# EAGLE library part MC100EP446FAG (library ON_Semiconductor_By_element14_Batch_1)
IC CONV 8BIT SER/PAR ECL
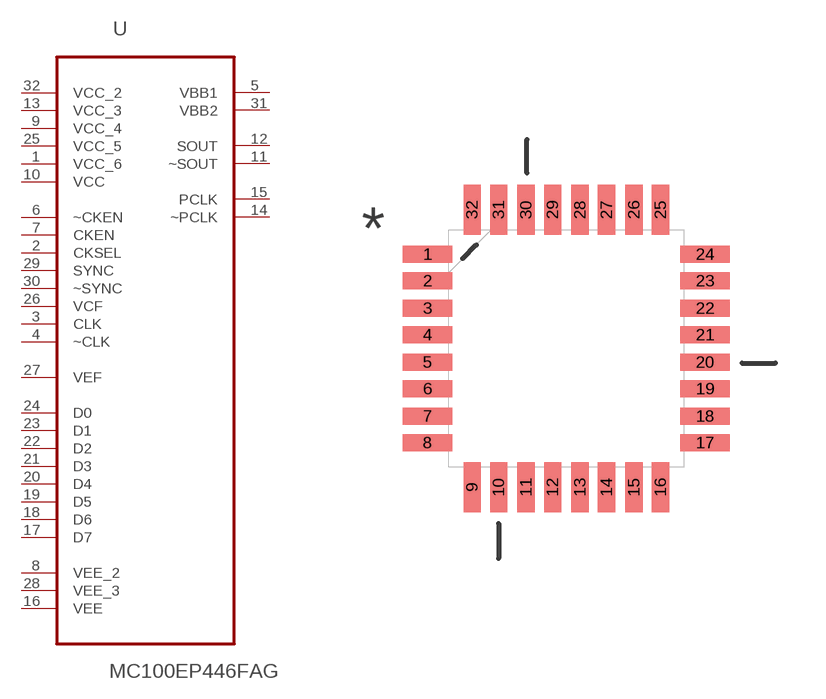
[diagram p120: symbol with the pads of QFP80P900X900X160-32N; footprint QFP80P900X900X160-32N]

Designator prefix U

## MC100EP446FAG (MPN: MC100EP446FAG; OC_FARNELL: 1703314; OC_NEWARK: 26K3867; PACKAGE: LQFP-32; SUPPLIER: ON SEMICONDUCTOR)  [QFP80P900X900X160-32N]
1  VCC_6  pwr
2  CKSEL  in
3  CLK  in
4  ~CLK  in
5  VBB1  out
6  ~CKEN  in
7  CKEN  in
8  VEE_2  pas
9  VCC_4  pwr
10  VCC  pwr
11  ~SOUT  out
12  SOUT  out
13  VCC_3  pwr
14  ~PCLK  out
15  PCLK  out
16  VEE  pas
17  D7  in
18  D6  in
19  D5  in
20  D4  in
21  D3  in
22  D2  in
23  D1  in
24  D0  in
25  VCC_5  pwr
26  VCF  in
27  VEF  in
28  VEE_3  pas
29  SYNC  in
30  ~SYNC  in
31  VBB2  out
32  VCC_2  pwr

## Footprint QFP80P900X900X160-32N (pad centres in mm)
smd 1.473 x 0.508: 1 -4.115,2.794; 2 -4.115,2.007; 3 -4.115,1.194; 4 -4.115,0.406; 5 -4.115,-0.406; 6 -4.115,-1.194; 7 -4.115,-2.007; 8 -4.115,-2.794; 17 4.115,-2.794; 18 4.115,-2.007; 19 4.115,-1.194; 20 4.115,-0.406; 21 4.115,0.406; 22 4.115,1.194; 23 4.115,2.007; 24 4.115,2.794
smd 0.508 x 1.473: 9 -2.794,-4.115; 10 -2.007,-4.115; 11 -1.194,-4.115; 12 -0.406,-4.115; 13 0.406,-4.115; 14 1.194,-4.115; 15 2.007,-4.115; 16 2.794,-4.115; 25 2.794,4.115; 26 2.007,4.115; 27 1.194,4.115; 28 0.406,4.115; 29 -0.406,4.115; 30 -1.194,4.115; 31 -2.007,4.115; 32 -2.794,4.115